# Altium footprint library MAL214699107E3.PcbLib: 1 footprints
Each footprint in its own frame and in the unit in brackets; x right, y up, seen from the top. Pads: shape width x height; smd on the part's side, far side on the other; paste and mask are expansions set on the pad; w line width, h text height; cw(c..) or ccw(c..) is an arc to the next point about the centre after c.
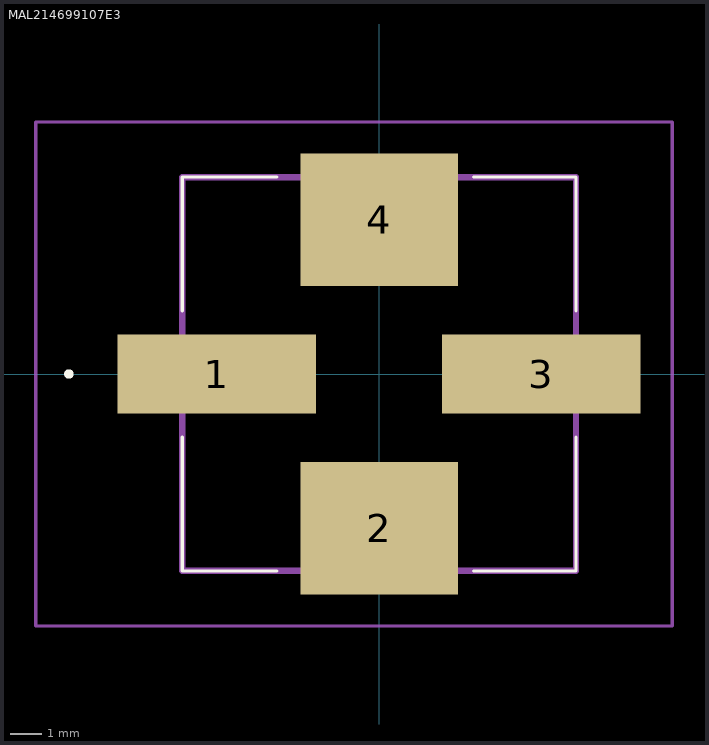
[diagram p0: the footprint, top view; thin cyan lines are the x and y axes]

## MAL214699107E3 [mm]
pads (4):
  rect 6.3x2.5 smd: 1(-5.15,0) 3(5.15,0)
  rect 5x4.2 smd: 2(0,-4.9) 4(0,4.9)
Top Overlay:
  lines w0.1: -6.25,-6.25 -3.25,-6.25 ; -6.25,-6.25 -6.25,-6.25 ; -6.25,-6.25 -3.25,-6.25 ; -6.25,-6.25 -6.25,-6.25 ; -6.25,-6.25 -6.25,-2 ; -6.25,-6.25 -6.25,-2 ; -6.25,-2 -6.25,-2 ; -6.25,2 -6.25,2 ; -6.25,2 -6.25,6.25 ; -6.25,2 -6.25,6.25 ; -6.25,6.25 -6.25,6.25 ; -6.25,6.25 -3.25,6.25 ; -6.25,6.25 -3.25,6.25 ; -6.25,6.25 -6.25,6.25 ; -3.25,-6.25 -3.25,-6.25 ; -3.25,6.25 -3.25,6.25 ; 3,-6.25 6.25,-6.25 ; 3,-6.25 3,-6.25 ; 3,-6.25 6.25,-6.25 ; 3,6.25 6.25,6.25 ; 3,6.25 6.25,6.25 ; 3,6.25 3,6.25 ; 6.25,-6.25 6.25,-2 ; 6.25,-6.25 6.25,-6.25 ; 6.25,-6.25 6.25,-2 ; 6.25,-6.25 6.25,-6.25 ; 6.25,-2 6.25,-2 ; 6.25,2 6.25,6.25 ; 6.25,2 6.25,2 ; 6.25,2 6.25,6.25 ; 6.25,6.25 6.25,6.25 ; 6.25,6.25 6.25,6.25
  lines w0.2: -9.9,0 -9.9,0 ; -9.9,0 ccw(c-9.85,0) -9.8,0 ; -9.9,0 cw(c-9.85,0) -9.8,0 ; -9.9,0 -9.9,0 ; -9.9,0 ccw(c-9.85,0) -9.8,0 ; -9.8,0 -9.8,0
Mechanical 15:
  lines w0.2: -6.25,-6.25 6.25,-6.25 6.25,6.25 -6.25,6.25 -6.25,-6.25
Mechanical 20:
  lines w0.1: -10.9,-8 9.3,-8 9.3,8 -10.9,8 -10.9,-8